# Altium footprint library WikiHub-Mini.PcbLib: 10 footprints
Each footprint in its own frame and in the unit in brackets; x right, y up, seen from the top. Pads: shape width x height; smd on the part's side, far side on the other; paste and mask are expansions set on the pad; w line width, h text height; cw(c..) or ccw(c..) is an arc to the next point about the centre after c.
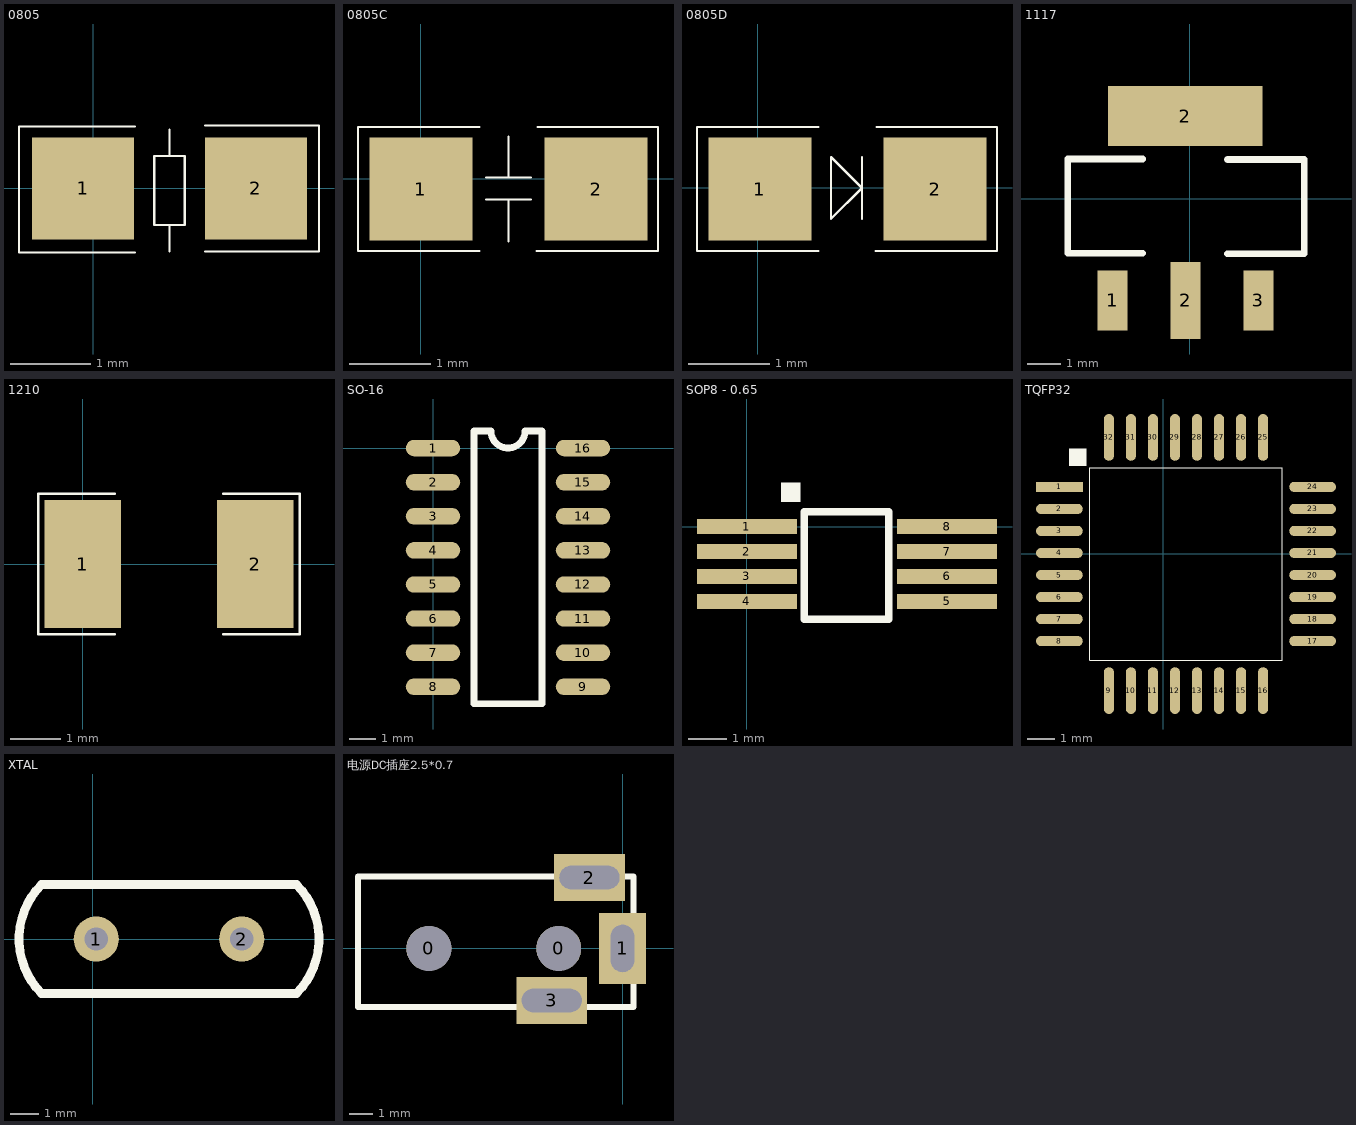
[diagram p0: the footprints below, top view; thin cyan lines are the x and y axes]

## 0805 [mil]
pads (2):
  rect 50x50 smd: 1(-5,0) 2(80,0)
Top Overlay:
  lines w1: 20.5,-31.5 -36.5,-31.5 -36.5,30.5 20.5,30.5 ; 37.5,-31 37.5,-18 ; 37.5,16 37.5,29 ; 55,-31 111,-31 111,31 55,31 ; 30,-18 33.75,-18 41.25,-18 45,-18 45,16 30,16 30,-18

## 0805C [mil]
pads (2):
  rect 50x50 smd: 1(0,-5) 2(85,-5)
Top Overlay:
  lines w1: -30.5,-35 28.5,-35 ; -30.5,-34.5 -30.5,25 ; -30,25 28.5,25 ; 31.5,-10 37,-10 48,-10 53.5,-10 ; 31.5,0.5 53.5,0.5 ; 42.5,-30.5 42.5,-10.5 ; 42.5,0.5 42.5,20.5 ; 56,-35 115,-35 115,24.5 ; 56.5,25 115,25

## 0805D [mil]
pads (2):
  rect 50x50 smd: 1(1,-0.5) 2(86,-0.5)
Top Overlay:
  lines w1: -29.5,-30.5 29.5,-30.5 ; -29.5,-30 -29.5,29.5 ; -29,29.5 29.5,29.5 ; 50.5,-15 50.5,15 ; 57,-30.5 116,-30.5 116,29 ; 57.5,29.5 116,29.5 ; 35.5,-15 35.5,15 50.5,0 35.5,-15

## 1117 [mil]
pads (4):
  rect 35x70 smd: 1(-90,-118.5) 3(80,-118.5)
  rect 180x70 smd: 2(-5.5,96.5)
  rect 35x90 smd: 2(-5,-118.5)
Top Overlay:
  lines w8: -55,-63.5 -142.5,-63.5 -142.5,46.5 -55,46.5 ; 44,-64 133.5,-64 133.5,46 44,46

## 1210 [mil]
pads (2):
  rect 60x100 smd: 1(0,0) 2(135,0)
Top Overlay:
  lines w2: 25,-55 -35,-55 -35,55 25,55 ; 110,-55 170,-55 170,55 110,55

## SO-16 [mil]
pads (16):
  oval 80x24 smd: 1(0,0) 2(0,-50) 3(0,-100) 4(0,-150) 5(0,-200) 6(0,-250) 7(0,-300) 8(0,-350) 9(220,-350) 10(220,-300) 11(220,-250) 12(220,-200) 13(220,-150) 14(220,-100) 15(220,-50) 16(220,0)
Top Overlay:
  lines w10: 60,-375 60,25 85,25 ccw(c110,25) 135,25 160,25 160,-375 60,-375

## SOP8 - 0.65 [mm] "Small Outline; 8 Leads; Body Width 4.3 mm; Pitch 1.27 mm"
height 1.5
pads (8):
  rect 2.6x0.4 smd: 1(0,0) 2(0,-0.65) 3(0,-1.3) 4(0,-1.95) 5(5.207,-1.95) 6(5.207,-1.3) 7(5.207,-0.65) 8(5.207,0)
Top Overlay:
  rectangle: 0.889,0.635 1.397,1.143
  lines w0.2: 1.491,-2.413 3.691,-2.413 3.691,0.381 2.083,0.381 1.491,0.381 1.491,-2.413

## TQFP32 [mm]
pads (32):
  rect 1.7x0.37 smd: 1(-3.781,2.422)
  oval 1.7x0.37 smd: 2(-3.781,1.622) 3(-3.781,0.822) 4(-3.781,0.022) 5(-3.781,-0.778) 6(-3.781,-1.578) 7(-3.781,-2.378) 8(-3.781,-3.178) 17(5.419,-3.178) 18(5.419,-2.378) 19(5.419,-1.578) 20(5.419,-0.778) 21(5.419,0.022) 22(5.419,0.822) 23(5.419,1.622) 24(5.419,2.422)
  oval 0.37x1.7 smd: 9(-1.981,-4.978) 10(-1.181,-4.978) 11(-0.381,-4.978) 12(0.419,-4.978) 13(1.219,-4.978) 14(2.019,-4.978) 15(2.819,-4.978) 16(3.619,-4.978) 25(3.619,4.222) 26(2.819,4.222) 27(2.019,4.222) 28(1.219,4.222) 29(0.419,4.222) 30(-0.381,4.222) 31(-1.181,4.222) 32(-1.981,4.222)
Top Overlay:
  rectangle: -3.429,3.175 -2.794,3.81
  lines w0.025: -2.681,-3.878 4.319,-3.878 4.319,3.122 -2.681,3.122 -2.681,-0.378 -2.681,-3.878

## XTAL [mil]
pads (2):
  round 62 hole 32: 1(5,0) 2(205,0)
Top Overlay:
  lines w12: -70,-75 cw(c5,0) -70,75 280,75 cw(c205,0) 280,-75 -70,-75

## 电源DC插座2.5*0.7 [mm]
height 11
pads (5):
  round 1.9 hole 1.9: 0(-8.2,0) 0(-2.7,0)
  rect 2x3 hole 1 slot 2 at 90 deg: 1(0,0)
  rect 3x2 hole 1 slot 2.54 at 0 deg: 2(-1.4,3) 3(-3,-2.2)
Top Overlay:
  lines w0.254: -11.2,-2.489 -11.2,3.048 0.457,3.048 0.457,-2.489 -11.2,-2.489